# Altium schematic symbol library Terminal.SchLib: 34 symbols
Pins are listed as number, name and electrical type; pins without a type are passive.

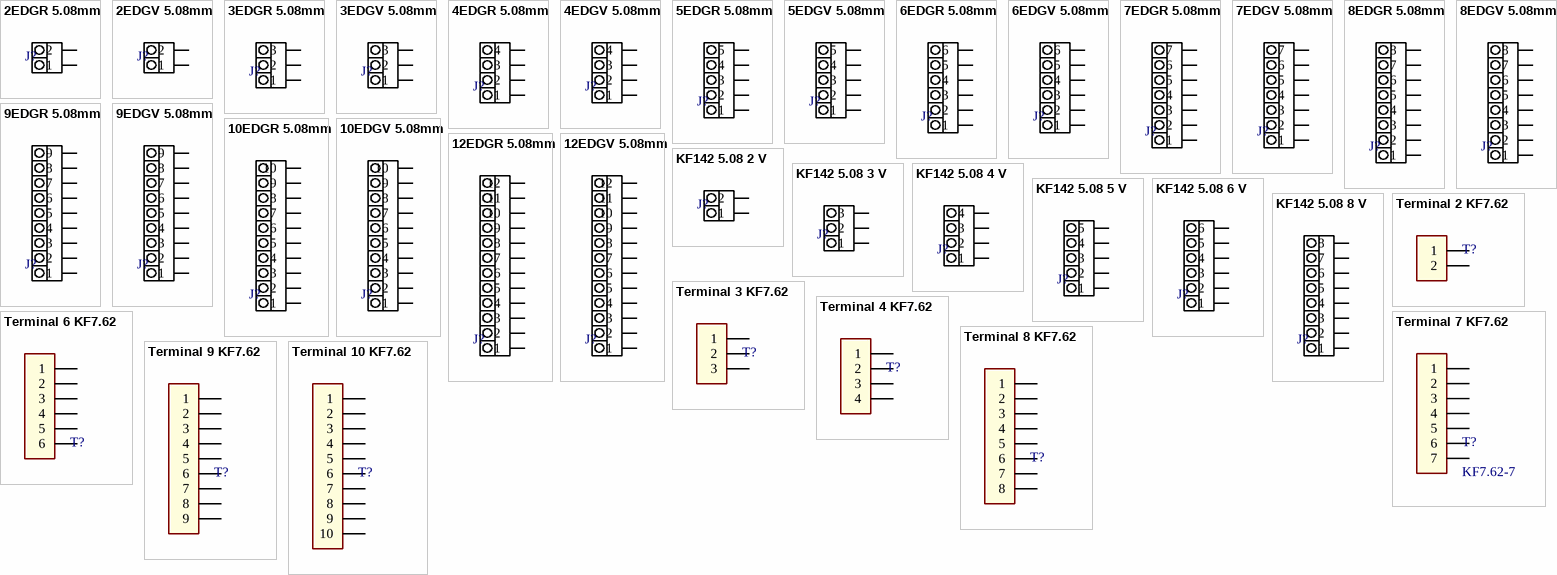
[diagram p0: symbols 2EDGR 5.08mm to Terminal 10 KF7.62]

## 2EDGR 5.08mm
designator J?  (value not drawn)
Through hole
footprint 2 EDGR5.08
pins: 1, 2

## 2EDGV 5.08mm
designator J?  (value not drawn)
Through hole
footprint 2 EDGV5.08
pins: 1, 2

## 3EDGR 5.08mm
designator J?  (value not drawn)
Through hole
footprint 3 EDGR5.08
pins: 1, 2, 3

## 3EDGV 5.08mm
designator J?  (value not drawn)
Through hole
footprint 3 EDGV5.08
pins: 1, 2, 3

## 4EDGR 5.08mm
designator J?  (value not drawn)
Through hole
footprint 4 EDGR5.08
pins: 1, 2, 3, 4

## 4EDGV 5.08mm
designator J?  (value not drawn)
Through hole
footprint 4 EDGV5.08
pins: 1, 2, 3, 4

## 5EDGR 5.08mm
designator J?  (value not drawn)
Through hole
footprint 5 EDGR5.08
pins: 1, 2, 3, 4, 5

## 5EDGV 5.08mm
designator J?  (value not drawn)
Through hole
footprint 5 EDGV5.08
pins: 1, 2, 3, 4, 5

## 6EDGR 5.08mm
designator J?  (value not drawn)
Through hole
footprint 6 EDGR5.08
pins: 1, 2, 3, 4, 5, 6

## 6EDGV 5.08mm
designator J?  (value not drawn)
Through hole
footprint 6 EDGV5.08
pins: 1, 2, 3, 4, 5, 6

## 7EDGR 5.08mm
designator J?  (value not drawn)
Through hole
footprint 7 EDGR5.08
pins: 1, 2, 3, 4, 5, 6, 7

## 7EDGV 5.08mm
designator J?  (value not drawn)
Through hole
footprint 7 EDGV5.08
pins: 1, 2, 3, 4, 5, 6, 7

## 8EDGR 5.08mm
designator J?  (value not drawn)
Through hole
footprint 8 EDGR5.08
pins: 1, 2, 3, 4, 5, 6, 7, 8

## 8EDGV 5.08mm
designator J?  (value not drawn)
Through hole
footprint 8 EDGV5.08
pins: 1, 2, 3, 4, 5, 6, 7, 8

## 9EDGR 5.08mm
designator J?  (value not drawn)
Through hole
footprint 9 EDGR5.08
pins: 1, 2, 3, 4, 5, 6, 7, 8, 9

## 9EDGV 5.08mm
designator J?  (value not drawn)
Through hole
footprint 9 EDGV5.08
pins: 1, 2, 3, 4, 5, 6, 7, 8, 9

## 10EDGR 5.08mm
designator J?  (value not drawn)
Through hole
footprint 10 EDGR5.08
pins: 1, 2, 3, 4, 5, 6, 7, 8, 9, 10

## 10EDGV 5.08mm
designator J?  (value not drawn)
Through hole
footprint 10 EDGV5.08
pins: 1, 2, 3, 4, 5, 6, 7, 8, 9, 10

## 12EDGR 5.08mm
designator J?  (value not drawn)
Through hole
footprint 12 EDGR5.08
pins: 1, 2, 3, 4, 5, 6, 7, 8, 9, 10, 11, 12

## 12EDGV 5.08mm
designator J?  (value not drawn)
Through hole
footprint 12 EDGV5.08
pins: 1, 2, 3, 4, 5, 6, 7, 8, 9, 10, 11, 12

## KF142 5.08 2 V
designator J?  (value not drawn)
Through hole
footprint KF142 5.08 2 V (pitch 5.08mm)
pins: 1, 2

## KF142 5.08 3 V
designator J?  (value not drawn)
Through hole
footprint KF142 5.08 3 V (pitch 5.08mm)
pins: 1, 2, 3

## KF142 5.08 4 V
designator J?  (value not drawn)
Through hole
footprint KF142 5.08 4 V (pitch 5.08mm)
pins: 1, 2, 3, 4

## KF142 5.08 5 V
designator J?  (value not drawn)
Through hole
footprint KF142 5.08 5 V (pitch 5.08mm)
pins: 1, 2, 3, 4, 5

## KF142 5.08 6 V
designator J?  (value not drawn)
Through hole
footprint KF142 5.08 6 V (pitch 5.08mm)
pins: 1, 2, 3, 4, 5, 6

## KF142 5.08 8 V
designator J?  (value not drawn)
Through hole
footprint KF142 5.08 8 V (pitch 5.08mm)
pins: 1, 2, 3, 4, 5, 6, 7, 8

## Terminal 2 KF7.62
designator T?, comment kf7.62-2  (value not drawn)
Though hole
footprint KF7.62-2
pins: 1, 2

## Terminal 3 KF7.62
designator T?, comment KF7.62-3  (value not drawn)
Though hole; Chung_Loai: Cắm; Ma_Hang: MH002053; Ten_Linh_Kien: CON 2 KF7.62-2P 7.62MM (Đen Thẳng); Don_Vi: Con; Ghi_Chu: *; Kieu_Chan: *
footprint KF7.62-3
pins: 1, 2, 3

## Terminal 4 KF7.62
designator T?, comment KF7.62-4  (value not drawn)
Through hole
footprint KF7.62-4
pins: 1, 2, 3, 4

## Terminal 6 KF7.62
designator T?, comment KF7.62-6  (value not drawn)
Through hole
footprint kf7.62-6
pins: 1, 2, 3, 4, 5, 6

## Terminal 7 KF7.62
designator T?, comment KF7.62-7
Through hole
footprint kf7.62-7
pins: 1, 2, 3, 4, 5, 6, 7

## Terminal 8 KF7.62
designator T?, comment KF7.62-8  (value not drawn)
Through hole
footprint kf7.62-8
pins: 1, 2, 3, 4, 5, 6, 7, 8

## Terminal 9 KF7.62
designator T?, comment KF7.62-9  (value not drawn)
Through hole
footprint kf7.62-9
pins: 1, 2, 3, 4, 5, 6, 7, 8, 9

## Terminal 10 KF7.62
designator T?, comment KF7.62-10  (value not drawn)
Through hole
footprint kf7.62-10
pins: 1, 2, 3, 4, 5, 6, 7, 8, 9, 10